# Altium schematic symbol library pwr_switching_module.SchLib: 27 symbols
Pins are listed as number, name and electrical type; pins without a type are passive.

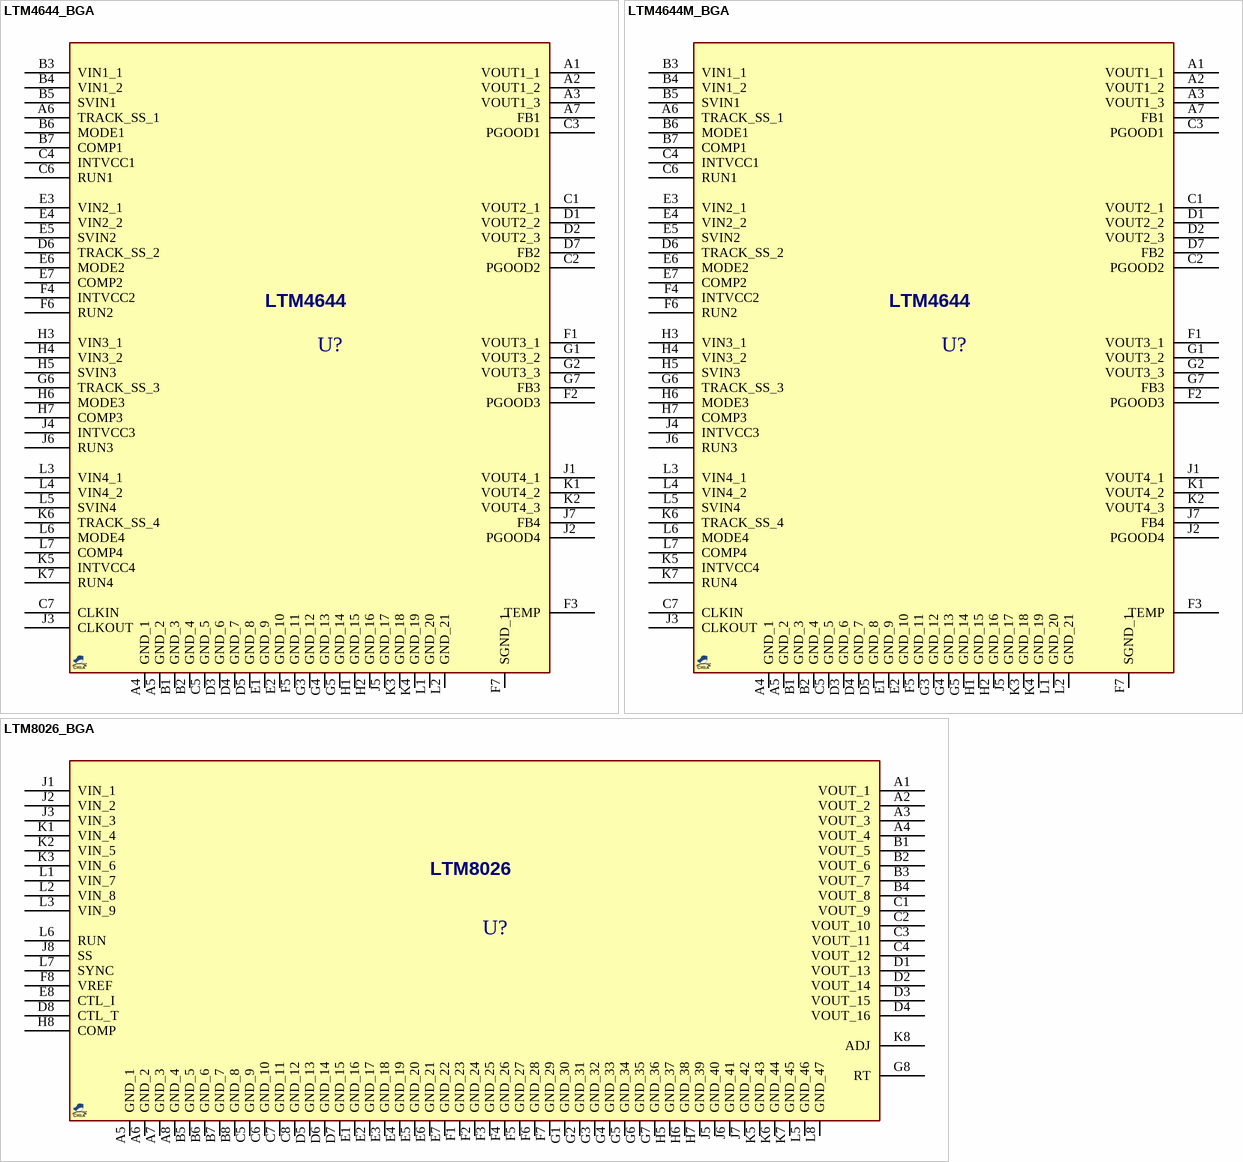
[diagram p0: symbols LTM4644_BGA to LTM8026_BGA]

## LTM4644_BGA
designator U?, comment LTM4644  (value not drawn)
DC2DC Switching MODULE, QUAD, 4A; MANF: ANALOG DEVICE; MANF_P#: LTM4644EY, LTM4644IY; PARAM2: 4~14VIN, 0.6~5.5VOUT; PARAM: 4A, –40~125°C; PRICE: -; VALUE: LTM4644
footprint BGA127_77_1509 (LTM8026, BGA 8X11ball, pitch: 1.27mm, 9X15mm)
pins: A1 VOUT1_1, A2 VOUT1_2, A3 VOUT1_3, A4 GND_1, A5 GND_2, A6 TRACK_SS_1, A7 FB1, B1 GND_3, B2 GND_4, B3 VIN1_1, B4 VIN1_2, B5 SVIN1, B6 MODE1, B7 COMP1, C1 VOUT2_1, C2 PGOOD2, C3 PGOOD1, C4 INTVCC1, C5 GND_5, C6 RUN1, C7 CLKIN, D1 VOUT2_2, D2 VOUT2_3, D3 GND_6, D4 GND_7, D5 GND_8, D6 TRACK_SS_2, D7 FB2, E1 GND_9, E2 GND_10, E3 VIN2_1, E4 VIN2_2, E5 SVIN2, E6 MODE2, E7 COMP2, F1 VOUT3_1, F2 PGOOD3, F3 TEMP, F4 INTVCC2, F5 GND_11, F6 RUN2, F7 SGND_1, G1 VOUT3_2, G2 VOUT3_3, G3 GND_12, G4 GND_13, G5 GND_14, G6 TRACK_SS_3, G7 FB3, H1 GND_15, H2 GND_16, H3 VIN3_1, H4 VIN3_2, H5 SVIN3, H6 MODE3, H7 COMP3, J1 VOUT4_1, J2 PGOOD4, J3 CLKOUT, J4 INTVCC3, J5 GND_17, J6 RUN3, J7 FB4, K1 VOUT4_2, K2 VOUT4_3, K3 GND_18, K4 GND_19, K5 INTVCC4, K6 TRACK_SS_4, K7 RUN4, L1 GND_20, L2 GND_21, L3 VIN4_1, L4 VIN4_2, L5 SVIN4, L6 MODE4, L7 COMP4

## LTM4644M_BGA
designator U?, comment LTM4644  (value not drawn)
DC2DC Switching MODULE, QUAD, 4A; MANF: ANALOG DEVICE; MANF_P#: LTM4644MPY; PARAM2: 4~14VIN, 0.6~5.5VOUT; PARAM: 4A, –55~125°C; PRICE: -; VALUE: LTM4644
footprint BGA127_77_1509 (LTM8026, BGA 8X11ball, pitch: 1.27mm, 9X15mm)
pins: A1 VOUT1_1, A2 VOUT1_2, A3 VOUT1_3, A4 GND_1, A5 GND_2, A6 TRACK_SS_1, A7 FB1, B1 GND_3, B2 GND_4, B3 VIN1_1, B4 VIN1_2, B5 SVIN1, B6 MODE1, B7 COMP1, C1 VOUT2_1, C2 PGOOD2, C3 PGOOD1, C4 INTVCC1, C5 GND_5, C6 RUN1, C7 CLKIN, D1 VOUT2_2, D2 VOUT2_3, D3 GND_6, D4 GND_7, D5 GND_8, D6 TRACK_SS_2, D7 FB2, E1 GND_9, E2 GND_10, E3 VIN2_1, E4 VIN2_2, E5 SVIN2, E6 MODE2, E7 COMP2, F1 VOUT3_1, F2 PGOOD3, F3 TEMP, F4 INTVCC2, F5 GND_11, F6 RUN2, F7 SGND_1, G1 VOUT3_2, G2 VOUT3_3, G3 GND_12, G4 GND_13, G5 GND_14, G6 TRACK_SS_3, G7 FB3, H1 GND_15, H2 GND_16, H3 VIN3_1, H4 VIN3_2, H5 SVIN3, H6 MODE3, H7 COMP3, J1 VOUT4_1, J2 PGOOD4, J3 CLKOUT, J4 INTVCC3, J5 GND_17, J6 RUN3, J7 FB4, K1 VOUT4_2, K2 VOUT4_3, K3 GND_18, K4 GND_19, K5 INTVCC4, K6 TRACK_SS_4, K7 RUN4, L1 GND_20, L2 GND_21, L3 VIN4_1, L4 VIN4_2, L5 SVIN4, L6 MODE4, L7 COMP4

## LTM8026_BGA
designator U?, comment LTM8026  (value not drawn)
DC2DC Switching MODULE, 5A; MANF: ANALOG DEVICE; MANF_P#: LTM8026EY, LTM8026IY; PARAM2: 6~36VIN, 1.2~24VOUT; PARAM: 5A, –40~125°C; PRICE: -; VALUE: LTM8026
footprint BGA127_81_1511 (LTM8026, BGA 8X11ball, pitch: 1.27mm, 15x11.25mm)
pins: A1 VOUT_1, A2 VOUT_2, A3 VOUT_3, A4 VOUT_4, A5 GND_1, A6 GND_2, A7 GND_3, A8 GND_4, B1 VOUT_5, B2 VOUT_6, B3 VOUT_7, B4 VOUT_8, B5 GND_5, B6 GND_6, B7 GND_7, B8 GND_8, C1 VOUT_9, C2 VOUT_10, C3 VOUT_11, C4 VOUT_12, C5 GND_9, C6 GND_10, C7 GND_11, C8 GND_12, D1 VOUT_13, D2 VOUT_14, D3 VOUT_15, D4 VOUT_16, D5 GND_13, D6 GND_14, D7 GND_15, D8 CTL_T, E1 GND_16, E2 GND_17, E3 GND_18, E4 GND_19, E5 GND_20, E6 GND_21, E7 GND_22, E8 CTL_I, F1 GND_23, F2 GND_24, F3 GND_25, F4 GND_26, F5 GND_27, F6 GND_28, F7 GND_29, F8 VREF, G1 GND_30, G2 GND_31, G3 GND_32, G4 GND_33, G5 GND_34, G6 GND_35, G7 GND_36, G8 RT, H5 GND_37, H6 GND_38, H7 GND_39, H8 COMP, J1 VIN_1, J2 VIN_2, J3 VIN_3, J5 GND_40, J6 GND_41, J7 GND_42, J8 SS, K1 VIN_4, K2 VIN_5, K3 VIN_6, K5 GND_43, K6 GND_44, K7 GND_45, K8 ADJ, L1 VIN_7, L2 VIN_8, L3 VIN_9, L5 GND_46, L6 RUN, L7 SYNC, L8 GND_47

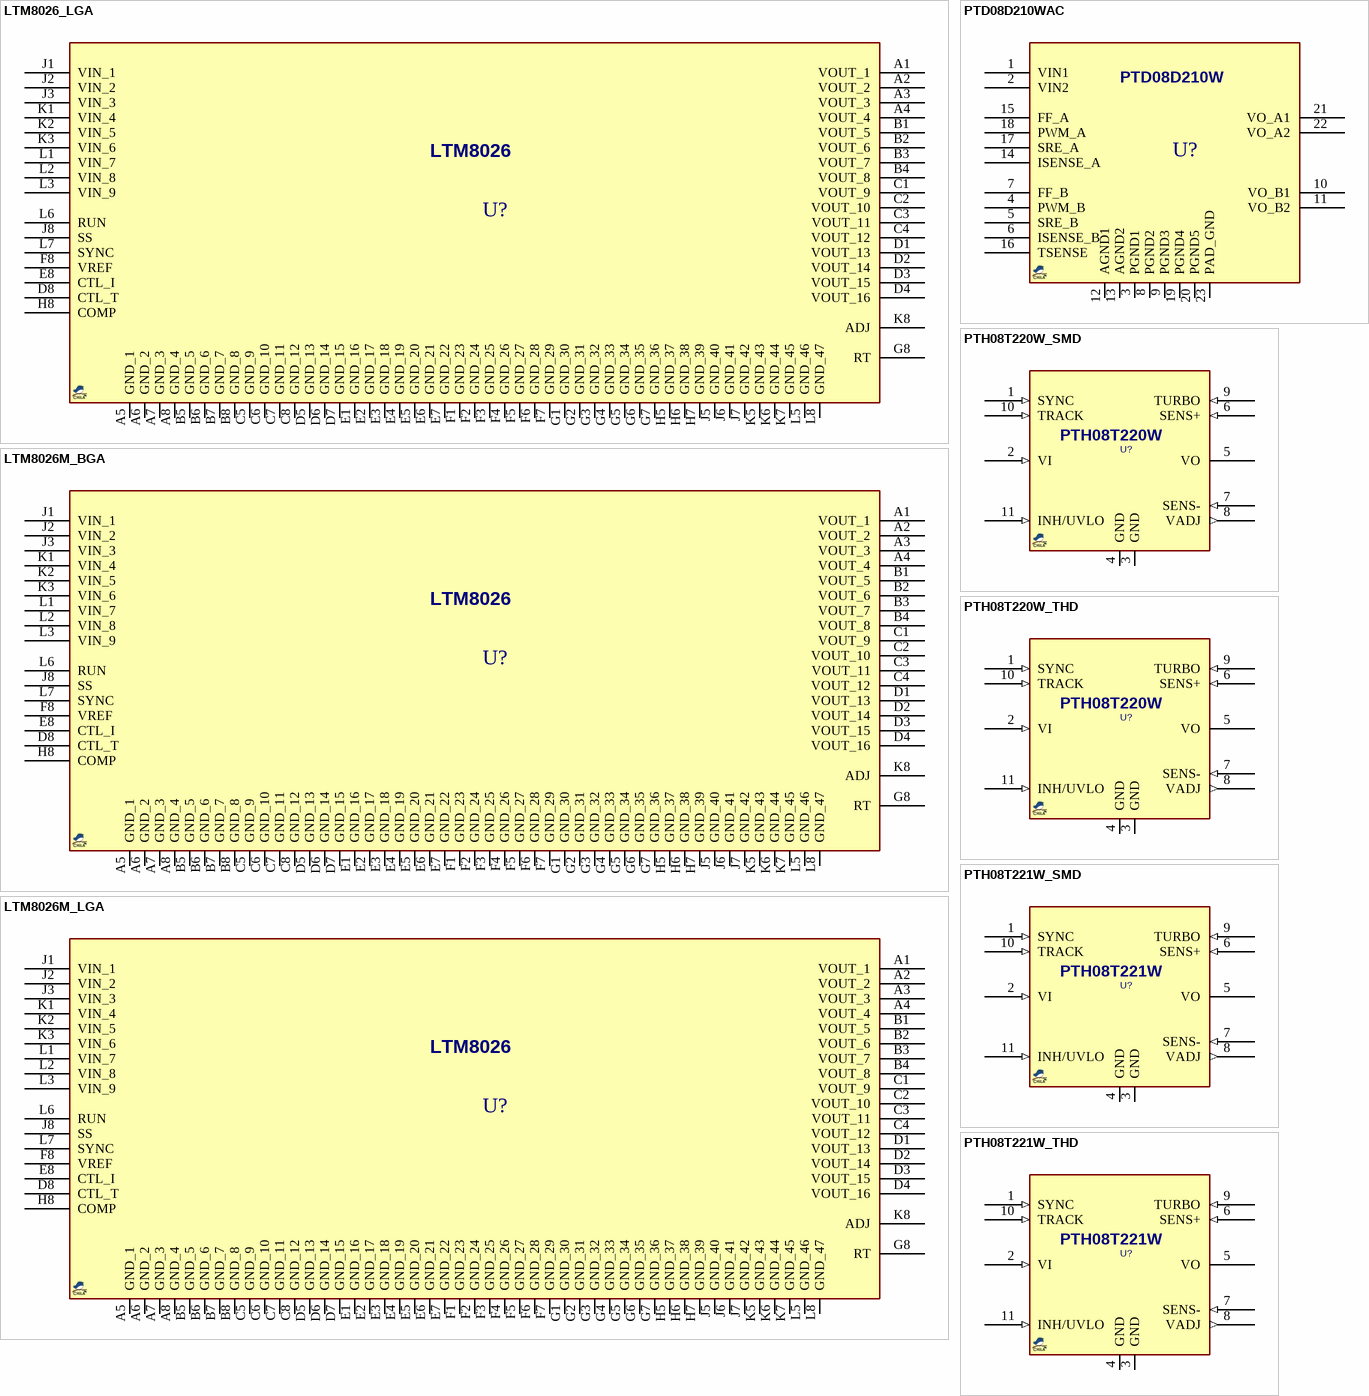
[diagram p1: symbols LTM8026_LGA to PTH08T221W_THD]

## LTM8026_LGA
designator U?, comment LTM8026  (value not drawn)
DC2DC Switching MODULE, 5A; MANF: ANALOG DEVICE; MANF_P#: LTM8026EV, LTM8026IV; PARAM2: 6~36VIN, 1.2~24VOUT; PARAM: 5A, –40~125°C; PRICE: -; VALUE: LTM8026
footprint LGA127_81_1511 (LTM8026, LGA 8X11ball, pitch: 1.27mm, 15x11.25mm)
pins: A1 VOUT_1, A2 VOUT_2, A3 VOUT_3, A4 VOUT_4, A5 GND_1, A6 GND_2, A7 GND_3, A8 GND_4, B1 VOUT_5, B2 VOUT_6, B3 VOUT_7, B4 VOUT_8, B5 GND_5, B6 GND_6, B7 GND_7, B8 GND_8, C1 VOUT_9, C2 VOUT_10, C3 VOUT_11, C4 VOUT_12, C5 GND_9, C6 GND_10, C7 GND_11, C8 GND_12, D1 VOUT_13, D2 VOUT_14, D3 VOUT_15, D4 VOUT_16, D5 GND_13, D6 GND_14, D7 GND_15, D8 CTL_T, E1 GND_16, E2 GND_17, E3 GND_18, E4 GND_19, E5 GND_20, E6 GND_21, E7 GND_22, E8 CTL_I, F1 GND_23, F2 GND_24, F3 GND_25, F4 GND_26, F5 GND_27, F6 GND_28, F7 GND_29, F8 VREF, G1 GND_30, G2 GND_31, G3 GND_32, G4 GND_33, G5 GND_34, G6 GND_35, G7 GND_36, G8 RT, H5 GND_37, H6 GND_38, H7 GND_39, H8 COMP, J1 VIN_1, J2 VIN_2, J3 VIN_3, J5 GND_40, J6 GND_41, J7 GND_42, J8 SS, K1 VIN_4, K2 VIN_5, K3 VIN_6, K5 GND_43, K6 GND_44, K7 GND_45, K8 ADJ, L1 VIN_7, L2 VIN_8, L3 VIN_9, L5 GND_46, L6 RUN, L7 SYNC, L8 GND_47

## LTM8026M_BGA
designator U?, comment LTM8026  (value not drawn)
DC2DC Switching MODULE, 5A; MANF: ANALOG DEVICE; MANF_P#: LTM8026MPY; PARAM2: 6~36VIN, 1.2~24VOUT; PARAM: 5A, –55~125°C; PRICE: -; VALUE: LTM8026
footprint BGA127_81_1511 (LTM8026, BGA 8X11ball, pitch: 1.27mm, 15x11.25mm)
pins: A1 VOUT_1, A2 VOUT_2, A3 VOUT_3, A4 VOUT_4, A5 GND_1, A6 GND_2, A7 GND_3, A8 GND_4, B1 VOUT_5, B2 VOUT_6, B3 VOUT_7, B4 VOUT_8, B5 GND_5, B6 GND_6, B7 GND_7, B8 GND_8, C1 VOUT_9, C2 VOUT_10, C3 VOUT_11, C4 VOUT_12, C5 GND_9, C6 GND_10, C7 GND_11, C8 GND_12, D1 VOUT_13, D2 VOUT_14, D3 VOUT_15, D4 VOUT_16, D5 GND_13, D6 GND_14, D7 GND_15, D8 CTL_T, E1 GND_16, E2 GND_17, E3 GND_18, E4 GND_19, E5 GND_20, E6 GND_21, E7 GND_22, E8 CTL_I, F1 GND_23, F2 GND_24, F3 GND_25, F4 GND_26, F5 GND_27, F6 GND_28, F7 GND_29, F8 VREF, G1 GND_30, G2 GND_31, G3 GND_32, G4 GND_33, G5 GND_34, G6 GND_35, G7 GND_36, G8 RT, H5 GND_37, H6 GND_38, H7 GND_39, H8 COMP, J1 VIN_1, J2 VIN_2, J3 VIN_3, J5 GND_40, J6 GND_41, J7 GND_42, J8 SS, K1 VIN_4, K2 VIN_5, K3 VIN_6, K5 GND_43, K6 GND_44, K7 GND_45, K8 ADJ, L1 VIN_7, L2 VIN_8, L3 VIN_9, L5 GND_46, L6 RUN, L7 SYNC, L8 GND_47

## LTM8026M_LGA
designator U?, comment LTM8026  (value not drawn)
DC2DC Switching MODULE, 5A; MANF: ANALOG DEVICE; MANF_P#: LTM8026MPV; PARAM2: 6~36VIN, 1.2~24VOUT; PARAM: 5A, –55~125°C; PRICE: -; VALUE: LTM8026
footprint LGA127_81_1511 (LTM8026, LGA 8X11ball, pitch: 1.27mm, 15x11.25mm)
pins: A1 VOUT_1, A2 VOUT_2, A3 VOUT_3, A4 VOUT_4, A5 GND_1, A6 GND_2, A7 GND_3, A8 GND_4, B1 VOUT_5, B2 VOUT_6, B3 VOUT_7, B4 VOUT_8, B5 GND_5, B6 GND_6, B7 GND_7, B8 GND_8, C1 VOUT_9, C2 VOUT_10, C3 VOUT_11, C4 VOUT_12, C5 GND_9, C6 GND_10, C7 GND_11, C8 GND_12, D1 VOUT_13, D2 VOUT_14, D3 VOUT_15, D4 VOUT_16, D5 GND_13, D6 GND_14, D7 GND_15, D8 CTL_T, E1 GND_16, E2 GND_17, E3 GND_18, E4 GND_19, E5 GND_20, E6 GND_21, E7 GND_22, E8 CTL_I, F1 GND_23, F2 GND_24, F3 GND_25, F4 GND_26, F5 GND_27, F6 GND_28, F7 GND_29, F8 VREF, G1 GND_30, G2 GND_31, G3 GND_32, G4 GND_33, G5 GND_34, G6 GND_35, G7 GND_36, G8 RT, H5 GND_37, H6 GND_38, H7 GND_39, H8 COMP, J1 VIN_1, J2 VIN_2, J3 VIN_3, J5 GND_40, J6 GND_41, J7 GND_42, J8 SS, K1 VIN_4, K2 VIN_5, K3 VIN_6, K5 GND_43, K6 GND_44, K7 GND_45, K8 ADJ, L1 VIN_7, L2 VIN_8, L3 VIN_9, L5 GND_46, L6 RUN, L7 SYNC, L8 GND_47

## PTD08D210WAC
designator U?, comment PTD08D210W  (value not drawn)
DC2DC Switching MODULE, Dual, 10A, Digital; MANF: TI; MANF_P#: PTD08D210WAC; PARAM2: 4.75~14VIN, 0.7~3.6VOUT; PARAM: Dual 10A, Digital, –40~85°C; PRICE: 17$; VALUE: PTD08D210W
footprint TI_PTD_EFS_22 (Footprint not found)
pins: 1 VIN1, 2 VIN2, 3 PGND1, 4 PWM_B, 5 SRE_B, 6 ISENSE_B, 7 FF_B, 8 PGND2, 9 PGND3, 10 VO_B1, 11 VO_B2, 12 AGND1, 13 AGND2, 14 ISENSE_A, 15 FF_A, 16 TSENSE, 17 SRE_A, 18 PWM_A, 19 PGND4, 20 PGND5, 21 VO_A1, 22 VO_A2, 23 PAD_GND

## PTH08T220W_SMD
designator U?, comment PTH08T220W  (value not drawn)
DC2DC Switching MODULE, 16A, SMD; MANF_P#: PTH08T220WAS; PARAM2: 4.75~14VIN, 0.7~5.5VOUT; DESC: PTH08T220WAST, PTH08T220WAZ; MANF: TI; PARAM: Dual 16A, -40~85°C; PRICE: 23$; VALUE: PTH08T220W
footprint TI_PTH_EAT_11 (Footprint not found)
pins: 1 SYNC (in), 2 VI (in), 3 GND (power), 4 GND (power), 5 VO (power), 6 SENS+ (in), 7 SENS- (in), 8 VADJ (out), 9 TURBO (in), 10 TRACK (in), 11 INH/UVLO (in)

## PTH08T220W_THD
designator U?, comment PTH08T220W  (value not drawn)
DC2DC Switching MODULE, 16A, THD; MANF_P#: PTH08T220WAH; PARAM2: 4.75~14VIN, 0.7~5.5VOUT; DESC: PTH08T220WAD; MANF: TI; PARAM: Dual 16A, -40~85°C; PRICE: 23$; VALUE: PTH08T220W
footprint TI_PTH_EAS_11 (Footprint not found)
pins: 1 SYNC (in), 2 VI (in), 3 GND (power), 4 GND (power), 5 VO (power), 6 SENS+ (in), 7 SENS- (in), 8 VADJ (out), 9 TURBO (in), 10 TRACK (in), 11 INH/UVLO (in)

## PTH08T221W_SMD
designator U?, comment PTH08T221W  (value not drawn)
DC2DC Switching MODULE, 16A, Ceramic Cap, SMD; MANF_P#: PTH08T221WAS; PARAM2: 4.75~14VIN, 0.7~5.5VOUT; DESC: PTH08T221WAZ; MANF: TI; PARAM: Dual 16A, -40~85°C; PRICE: 23$; VALUE: PTH08T221W
footprint TI_PTH_EAT_11 (Footprint not found)
pins: 1 SYNC (in), 2 VI (in), 3 GND (power), 4 GND (power), 5 VO (power), 6 SENS+ (in), 7 SENS- (in), 8 VADJ (out), 9 TURBO (in), 10 TRACK (in), 11 INH/UVLO (in)

## PTH08T221W_THD
designator U?, comment PTH08T221W  (value not drawn)
DC2DC Switching MODULE, 16A, Ceramic Cap, THD; MANF_P#: PTH08T221WAD; PARAM2: 4.75~14VIN, 0.7~5.5VOUT; MANF: TI; PARAM: Dual 16A, -40~85°C; PRICE: 23$; VALUE: PTH08T221W
footprint TI_PTH_EAS_11 (Footprint not found)
pins: 1 SYNC (in), 2 VI (in), 3 GND (power), 4 GND (power), 5 VO (power), 6 SENS+ (in), 7 SENS- (in), 8 VADJ (out), 9 TURBO (in), 10 TRACK (in), 11 INH/UVLO (in)

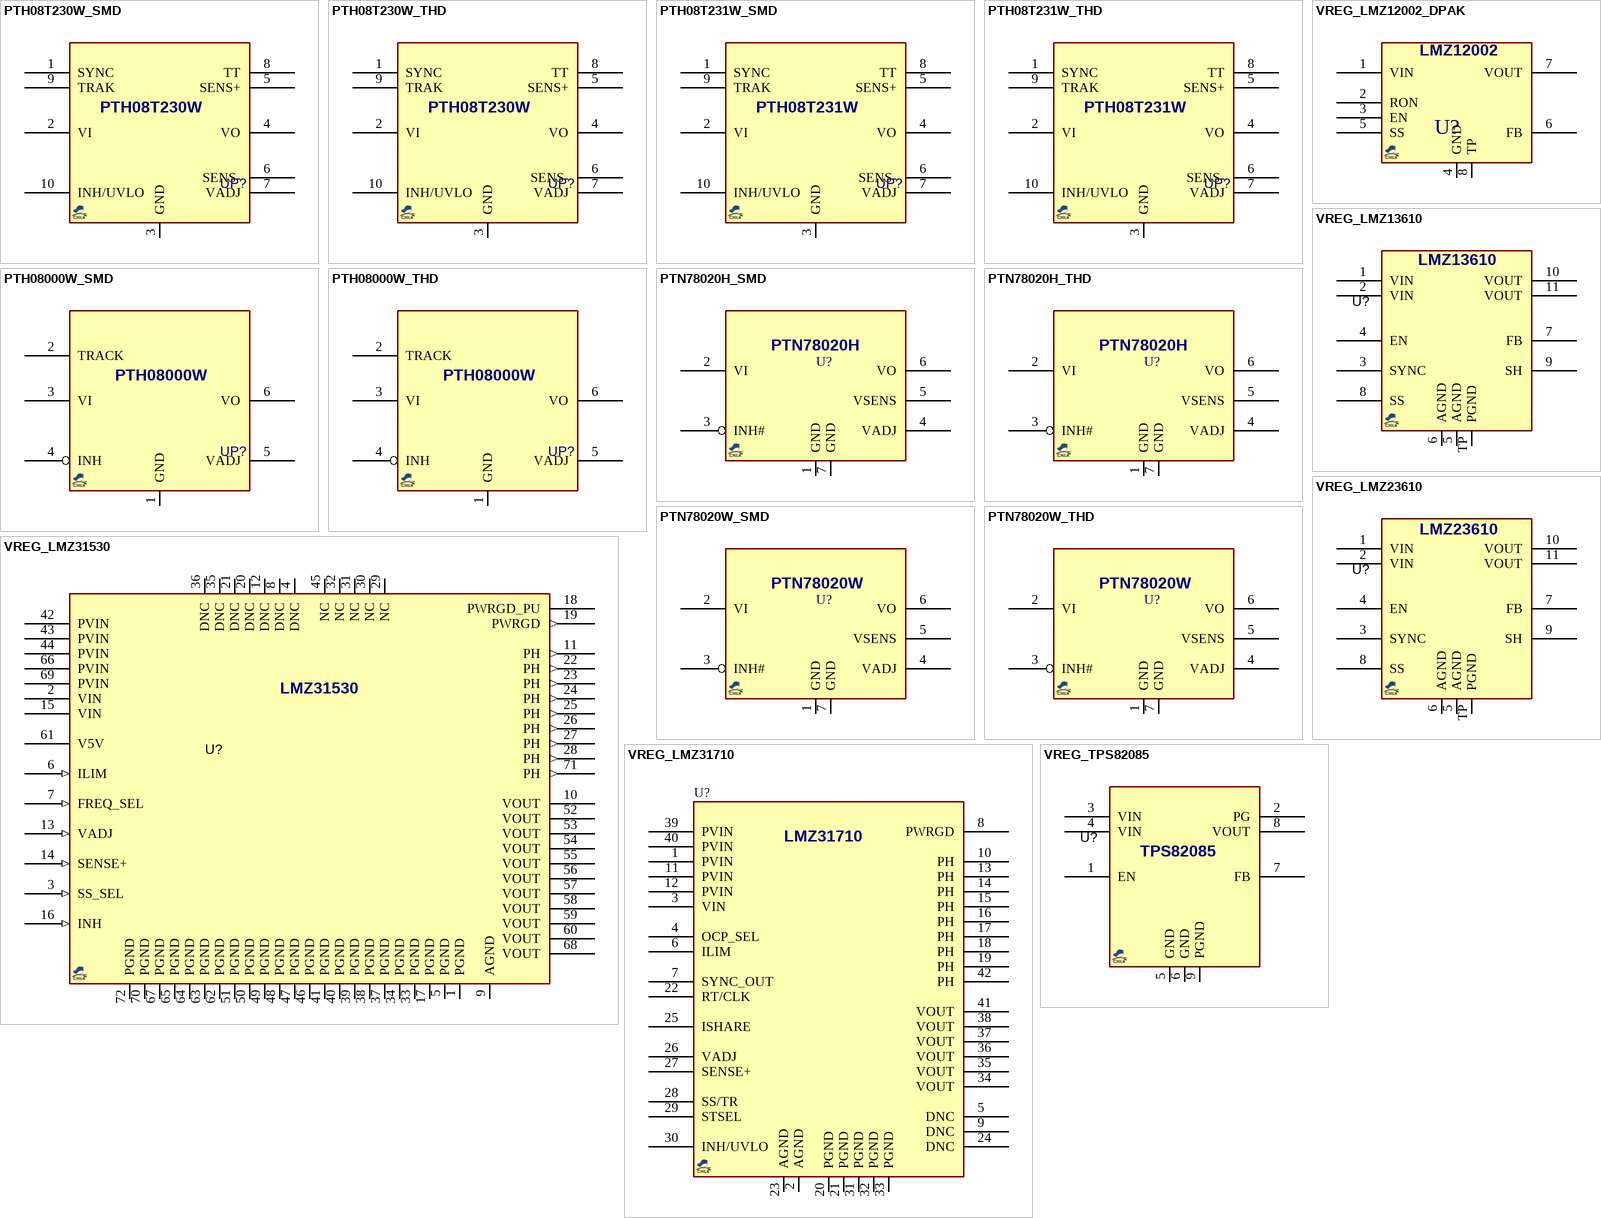
[diagram p2: symbols PTH08T230W_SMD to VREG_TPS82085]

## PTH08T230W_SMD
designator UP?, comment PTH08T230W  (value not drawn)
DC2DC Switching MODULE, 6A, SMD; MANF: TI; PARAM: 6A, -40~85°C; DESC: PTH08T230WAS; MANF_P#: PTH08T230WAZ; PARAM2: 4.5~14VIN, 0.7~5.5VOUT; ASSEMBLY: ASSEMBLY; PRICE: 13$; VALUE: PTH08T230W
footprint TI_PTH_ECM_10 (Footprint not found)
pins: 1 SYNC, 2 VI, 3 GND, 4 VO, 5 SENS+, 6 SENS-, 7 VADJ, 8 TT, 9 TRAK, 10 INH/UVLO

## PTH08T230W_THD
designator UP?, comment PTH08T230W  (value not drawn)
DC2DC Switching MODULE, 6A, SMD; MANF: TI; PARAM: 6A, -40~85°C; DESC: DESCRIPTION; MANF_P#: PTH08T230WAD; PARAM2: 4.5~14VIN, 0.7~5.5VOUT; ASSEMBLY: ASSEMBLY; PRICE: 13$; VALUE: PTH08T230W
footprint TI_PTH_ECL_10 (Module, 10-Leads, Body 18.92x15.75 mm)
pins: 1 SYNC, 2 VI, 3 GND, 4 VO, 5 SENS+, 6 SENS-, 7 VADJ, 8 TT, 9 TRAK, 10 INH/UVLO

## PTH08T231W_SMD
designator UP?, comment PTH08T231W  (value not drawn)
DC2DC Switching MODULE, 6A, Ceramic Cap, SMD; MANF: TI; PARAM: 6A, -40~85°C; DESC: DESCRIPTION; DIST#: PTH08T231WAS; MANF_P#: PTH08T231WAZ; PARAM2: 4.5~14VIN, 0.7~5.5VOUT; ASSEMBLY: ASSEMBLY; PRICE: 13$; VALUE: PTH08T231W
footprint TI_PTH_ECM_10 (Footprint not found)
pins: 1 SYNC, 2 VI, 3 GND, 4 VO, 5 SENS+, 6 SENS-, 7 VADJ, 8 TT, 9 TRAK, 10 INH/UVLO

## PTH08T231W_THD
designator UP?, comment PTH08T231W  (value not drawn)
DC2DC Switching MODULE, 6A, Ceramic Cap, SMD; MANF: TI; PARAM: 6A, -40~85°C; DESC: DESCRIPTION; MANF_P#: PTH08T231WAD; PARAM2: 4.5~14VIN, 0.7~5.5VOUT; ASSEMBLY: ASSEMBLY; PRICE: 13$; VALUE: PTH08T231W
footprint TI_PTH_ECL_10 (Module, 10-Leads, Body 18.92x15.75 mm)
pins: 1 SYNC, 2 VI, 3 GND, 4 VO, 5 SENS+, 6 SENS-, 7 VADJ, 8 TT, 9 TRAK, 10 INH/UVLO

## PTH08000W_SMD
designator UP?, comment PTH08000W  (value not drawn)
DC2DC Switching MODULE, 2.2A, SMD; MANF: TI; PARAM: 2.2A, -40~85°C; DESC: PTH08000WAST, PTH08000WAZ, PTH08000WAZT; MANF_P#: PTH08000WAS; PARAM2: 4.5~14VIN, 0.9~5.5VOUT; ASSEMBLY: ASSEMBLY; PRICE: 8$; VALUE: PTH08000W
footprint TI_PTH_EUT_6 (TexasInstruments POWERMODULE, EUT Package 18.9x12.6mm)
pins: 1 GND, 2 TRACK, 3 VI, 4 INH, 5 VADJ, 6 VO

## PTH08000W_THD
designator UP?, comment PTH08000W  (value not drawn)
DC2DC Switching MODULE, 2.2A, SMD; MANF: TI; PARAM: 2.2A, -40~85°C; DESC: DESCRIPTION; MANF_P#: PTH08000WAH; PARAM2: 4.5~14VIN, 0.9~5.5VOUT; ASSEMBLY: ASSEMBLY; PRICE: 8$; VALUE: PTH08000W
footprint TI_PTH_EUS_6 (TexasInstruments POWERMODULE, EUS Package 18.9x12.6mm)
pins: 1 GND, 2 TRACK, 3 VI, 4 INH, 5 VADJ, 6 VO

## PTN78020H_SMD
designator U?, comment PTN78020H  (value not drawn)
DC2DC Switching MODULE, 6A, SMD; MANF_P#: PTN78020HAS; PARAM2: 15~36VIN, 11.9~22VOUT; DESC: PTN78020HAZ; MANF: TI; PARAM: 6A, -40~85°C; PRICE: 25@; VALUE: PTN78020H
footprint TI_PTN_EUL_7 (TexasInstruments POWERMODULE, EUL, 38X22.1mm)
pins: 1 GND, 2 VI, 3 INH#, 4 VADJ, 5 VSENS, 6 VO, 7 GND

## PTN78020H_THD
designator U?, comment PTN78020H  (value not drawn)
DC2DC Switching MODULE, 6A, THD; MANF_P#: PTN78020HAH; PARAM2: 15~36VIN, 11.9~22VOUT; MANF: TI; PARAM: 6A, -40~85°C; PRICE: 25@; Value: PTN78020H
footprint TI_PTN_EUK_7 (TexasInstruments POWERMODULE, EUK, 38X22.1mm)
pins: 1 GND, 2 VI, 3 INH#, 4 VADJ, 5 VSENS, 6 VO, 7 GND

## PTN78020W_SMD
designator U?, comment PTN78020W  (value not drawn)
DC2DC Switching MODULE, 6A, SMD; MANF_P#: PTN78020WAS; PARAM2: 7~36VIN, 2.5~12.6VOUT; DESC: PTN78020WAZ, PTN78020WAZT; MANF: TI; PARAM: 6A, -40~85°C; PRICE: 25@; Value: PTN78020W
footprint TI_PTN_EUL_7 (TexasInstruments POWERMODULE, EUL, 38X22.1mm)
pins: 1 GND, 2 VI, 3 INH#, 4 VADJ, 5 VSENS, 6 VO, 7 GND

## PTN78020W_THD
designator U?, comment PTN78020W  (value not drawn)
DC2DC Switching MODULE, 6A, THD; MANF_P#: PTN78020WAD; PARAM2: 7~36VIN, 2.5~12.6VOUT; DESC: PTN78020WAH; MANF: TI; PARAM: 6A, -40~85°C; PRICE: 25@; Value: PTN78020W
footprint TI_PTN_EUK_7 (TexasInstruments POWERMODULE, EUK, 38X22.1mm)
pins: 1 GND, 2 VI, 3 INH#, 4 VADJ, 5 VSENS, 6 VO, 7 GND

## VREG_LMZ12002_DPAK
designator U?, comment LMZ12002  (value not drawn)
DC2DC Switching MODULE, Buck, 2A, ADJ, 1MHz, DPAK-7; PARAM: 2A, ADJ; PARAM2: 1MHz, 4.5~20VIN; MANF: TI; MANF_P#: LMZ12002; VALUE: LMZ12002
footprint D2PAK_7 (TO-263-7, D2PAK-7, NDW-7, TO-PMOD-7)
pins: 1 VIN, 2 RON, 3 EN, 4 GND, 5 SS, 6 FB, 7 VOUT, 8 TP

## VREG_LMZ13610
designator U?, comment LMZ13610  (value not drawn)
DC2DC Switching MODULE, Buck, 10A, ADJ, 0.35MHz, 6~36VIN, TZA11, integrated Inductor; PARAM2: 0.35MHz, 6~36Vin; 50W; MANF: TI; MANF_P#: LMZ23610TZ/NOPB; PARAM: 10A, ADJ, -40~85oC; PRICE: 22$; VALUE: LMZ13610
footprint PFM_11 (PFM11 (TI), TZA11A, pitch: 127mm, 11p, 15X15mm)
pins: 1 VIN, 2 VIN, 3 SYNC, 4 EN, 5 AGND, 6 AGND, 7 FB, 8 SS, 9 SH, 10 VOUT, 11 VOUT, TP PGND

## VREG_LMZ23610
designator U?, comment LMZ23610  (value not drawn)
DC2DC Switching MODULE, Buck, 10A, ADJ, 0.6MHz, 6~36VIN, TZA11, integrated Inductor; PARAM2: 0.6MHz, 6~36Vin; 50W; MANF: Texas Instruments; MANF_P#: LMZ23610TZ/NOPB; PARAM: 10A, ADJ, -40~85oC; PRICE: 22$; Value: LMZ23610
footprint PFM_11 (PFM11 (TI), TZA11A, pitch: 127mm, 11p, 15X15mm)
pins: 1 VIN, 2 VIN, 3 SYNC, 4 EN, 5 AGND, 6 AGND, 7 FB, 8 SS, 9 SH, 10 VOUT, 11 VOUT, TP PGND

## VREG_LMZ31530
designator U?, comment LMZ31530  (value not drawn)
DC2DC Switching MODULE, Buck, 30A, ADJ, 0.3~0.85MHz, 3~14.5VIN, RLG-72, integrated Inductor; MANF: Texas Instruments; MANF_P#: LMZ31530RLG; PARAM: 30A, ADJ, -40~85oC; PARAM2: 0.3~0.85MHz, 3~14.5Vin; PRICE: 24$; VALUE: LMZ31530
footprint QFN80_RLG72 (RLG-72)
pins: 1 PGND (power), 2 VIN (power), 3 SS_SEL (in), 4 DNC, 5 PGND (power), 6 ILIM (in), 7 FREQ_SEL (in), 8 DNC, 9 AGND (power), 10 VOUT (power), 11 PH (out), 12 DNC, 13 VADJ (in), 14 SENSE+ (in), 15 VIN (power), 16 INH (in), 17 PGND (power), 18 PWRGD_PU (power), 19 PWRGD (out), 20 DNC, 21 DNC, 22 PH (out), 23 PH (out), 24 PH (out), 25 PH (out), 26 PH (out), 27 PH (out), 28 PH (out), 29 NC, 30 NC, 31 NC, 32 NC, 33 PGND (power), 34 PGND (power), 35 DNC, 36 DNC, 37 PGND (power), 38 PGND (power), 39 PGND (power), 40 PGND (power), 41 PGND (power), 42 PVIN (power), 43 PVIN (power), 44 PVIN (power), 45 NC, 46 PGND (power), 47 PGND (power), 48 PGND (power), 49 PGND (power), 50 PGND (power), 51 PGND (power), 52 VOUT (power), 53 VOUT (power), 54 VOUT (power), 55 VOUT (power), 56 VOUT (power), 57 VOUT (power), 58 VOUT (power), 59 VOUT (power), 60 VOUT (power), 61 V5V (power), 62 PGND (power), 63 PGND (power), 64 PGND (power), 65 PGND (power), 66 PVIN (power), 67 PGND (power), 68 VOUT (power), 69 PVIN (power), 70 PGND (power), 71 PH (out), 72 PGND (power)

## VREG_LMZ31710
designator U?, comment LMZ31710  (value not drawn)
DC2DC Switching MODULE, Buck, 10A, ADJ, 1.2MHz, 3~17VIN, QFN40; MANF: Texas Instruments; MANF_P#: LMZ31710RVQ; PARAM: 10A, ADJ; PARAM2: 1.2MHz, 3~17VIN; PRICE: 9$; VALUE: LMZ31710
footprint QFN80_40T2 (QFN, 40-Leads, Body 10x10mm, Pitch 0.80mm RVQ (TI))
pins: 1 PVIN, 2 AGND, 3 VIN, 4 OCP_SEL, 5 DNC, 6 ILIM, 7 SYNC_OUT, 8 PWRGD, 9 DNC, 10 PH, 11 PVIN, 12 PVIN, 13 PH, 14 PH, 15 PH, 16 PH, 17 PH, 18 PH, 19 PH, 20 PGND, 21 PGND, 22 RT/CLK, 23 AGND, 24 DNC, 25 ISHARE, 26 VADJ, 27 SENSE+, 28 SS/TR, 29 STSEL, 30 INH/UVLO, 31 PGND, 32 PGND, 33 PGND, 34 VOUT, 35 VOUT, 36 VOUT, 37 VOUT, 38 VOUT, 39 PVIN, 40 PVIN, 41 VOUT, 42 PH

## VREG_TPS82085
designator U?, comment TPS82085  (value not drawn)
DC2DC Switching MODULE, Buck, 3A, ADJ, 2.5MHz, 6~36VIN, TZA11, integrated Inductor; PARAM2: 2.5~6Vin, ADJ,; MANF: Texas Instruments; MANF_P#: TPS82085SIL; PARAM: 3A, 2.5MHz, -40~85oC; PRICE: 4.5$; Value: TPS82085
footprint PSON65_8T_3X3 (SIL-8, MicroSiP, PSON, 8-Leads, Body 3.00x2.90mm, Pitch 0.65mm)
pins: 1 EN, 2 PG, 3 VIN, 4 VIN, 5 GND, 6 GND, 7 FB, 8 VOUT, 9 PGND